# EAGLE library part ESP8266-01 (library me)
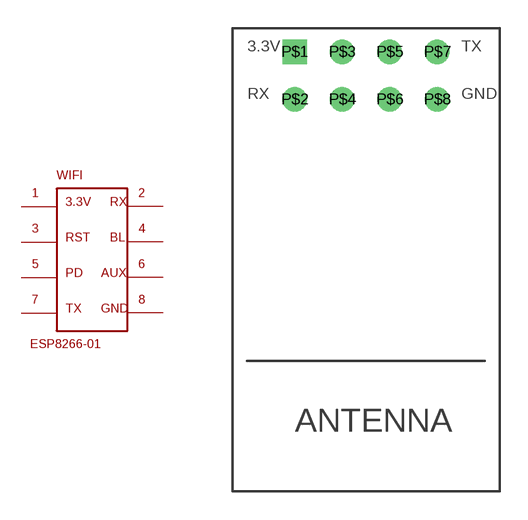
[diagram p4: symbol with the pads of ESP8266-01; footprint ESP8266-01]

Designator prefix WIFI

## ESP8266-01  [ESP8266-01]
P$1  P$1
P$2  P$2
P$3  P$3
P$4  P$4
P$5  P$5
P$6  P$6
P$7  P$7
P$8  P$8

## Footprint ESP8266-01 (pad centres in mm)
drill 0.8 square: P$1 -3.81,1.27
drill 0.8: P$2 -3.81,-1.27; P$3 -1.27,1.27; P$4 -1.27,-1.27; P$5 1.27,1.27; P$6 1.27,-1.27; P$7 3.81,1.27; P$8 3.81,-1.27